# Altium footprint library SOT-23.PcbLib: 1 footprints
Each footprint in its own frame and in the unit in brackets; x right, y up, seen from the top. Pads: shape width x height; smd on the part's side, far side on the other; paste and mask are expansions set on the pad; w line width, h text height; cw(c..) or ccw(c..) is an arc to the next point about the centre after c.
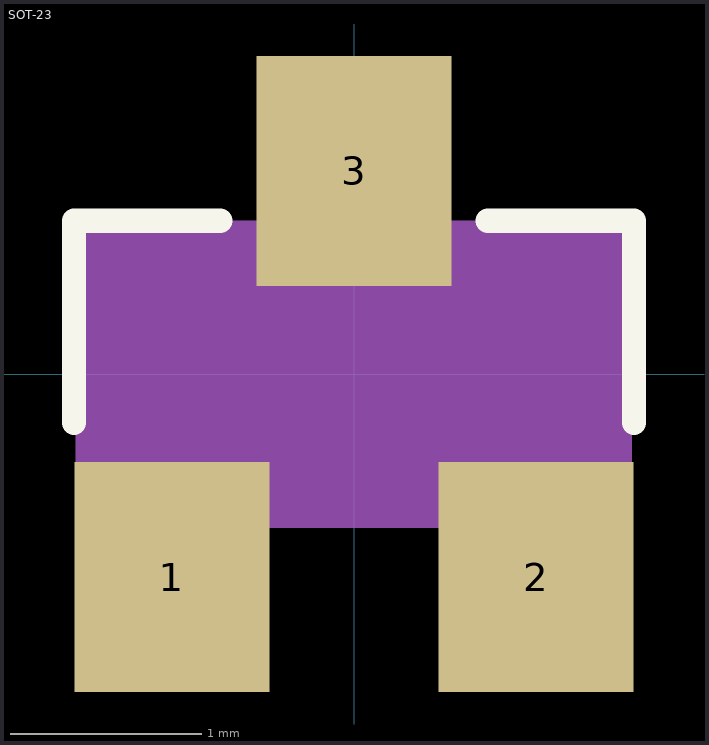
[diagram p0: the footprint, top view; thin cyan lines are the x and y axes]

## SOT-23 [mm]
pads (3):
  rect 1.016x1.2 smd: 1(-0.95,-1.06) 2(0.95,-1.06) 3(0,1.06)
Top Overlay:
  lines w0.127: -1.46,-0.254 -1.46,0.8 -0.699,0.8 ; 0.699,0.8 1.46,0.8 1.46,-0.254
Mechanical 13:
  region: 0.229,0.839 -0.229,0.839 -0.229,1.422 0.229,1.422
  region: 1.168,-1.423 0.712,-1.423 0.712,-0.838 1.168,-0.838
  region: -0.711,-1.424 -1.169,-1.424 -1.169,-0.838 -0.711,-0.838
Mechanical 15:
  region: 1.45,-0.801 -1.452,-0.801 -1.452,0.8 1.45,0.8
3D body "step_temp.STEP": height 1.3, standoff 0, extent -1.4,-1.45 1.4,1.45